# Altium footprint library JACK 6P6C.PcbLib: 1 footprints
Each footprint in its own frame and in the unit in brackets; x right, y up, seen from the top. Pads: shape width x height; smd on the part's side, far side on the other; paste and mask are expansions set on the pad; w line width, h text height; cw(c..) or ccw(c..) is an arc to the next point about the centre after c.
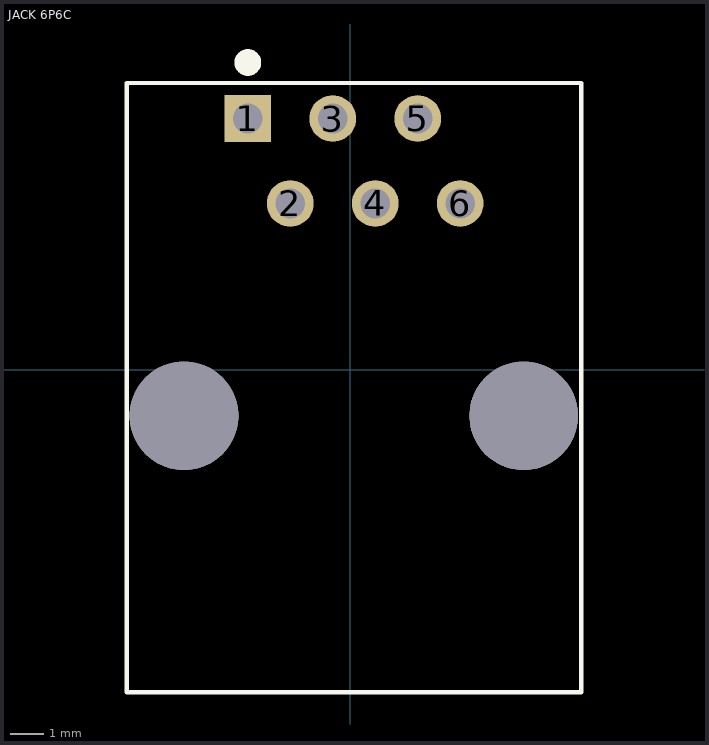
[diagram p0: the footprint, top view; thin cyan lines are the x and y axes]

## JACK 6P6C [mil]
pads (8):
  rect 55.04x55.04 hole 35.04: 1(-120.5,296)
  round 55.04 hole 35.04: 2(-70.5,196) 3(-20.5,296) 4(29.5,196) 5(79.5,296) 6(129.5,196)
  round 127.95 hole 127.95 unplated: ""(-195.7,-54) ""(204.3,-54)
Top Overlay:
  circle w15.75: c-120.5,362 r7.87
  lines w5: -263.02,-379.5 -263.02,338 272.02,338 272.02,-379.5 -263.02,-379.5
3D body "c-5555165-1-e-3d.stp": height 497.5, standoff -147.5, extent -257,-376 266,334